# Altium footprint library DIONM5437X240N.PcbLib: 1 footprints
Each footprint in its own frame and in the unit in brackets; x right, y up, seen from the top. Pads: shape width x height; smd on the part's side, far side on the other; paste and mask are expansions set on the pad; w line width, h text height; cw(c..) or ccw(c..) is an arc to the next point about the centre after c.
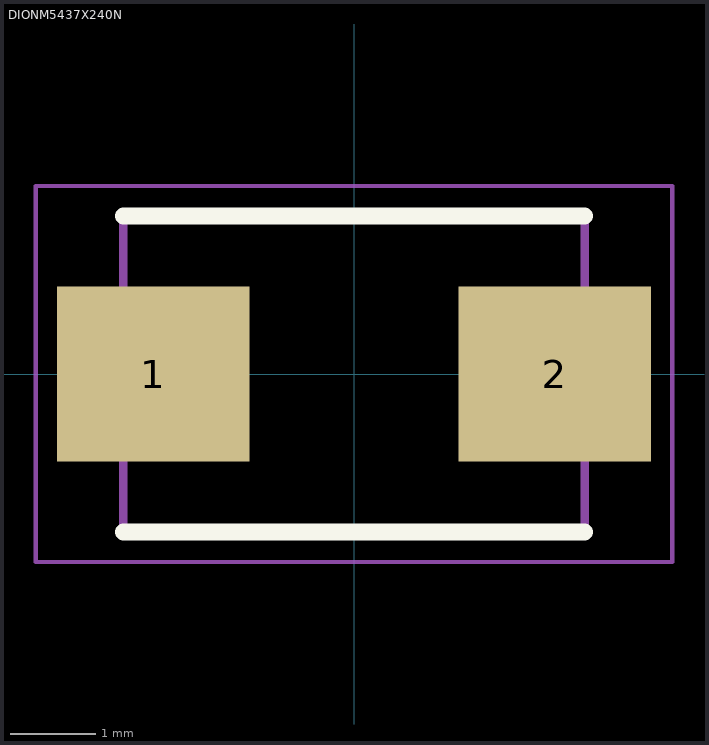
[diagram p0: the footprint, top view; thin cyan lines are the x and y axes]

## DIONM5437X240N [mm]
pads (2):
  rect 2.25x2.05 smd: 1(-2.35,0) 2(2.35,0)
Top Overlay:
  lines w0.2: -2.7,-1.85 2.7,-1.85 ; -2.7,1.85 2.7,1.85
Mechanical 15:
  lines w0.1: -2.7,-1.85 -2.7,1.85 2.7,1.85 2.7,-1.85 -2.7,-1.85
Mechanical 20:
  lines w0.05: -3.725,-2.2 -3.725,2.2 3.725,2.2 3.725,-2.2 -3.725,-2.2
3D body "P6SMBJ5.0CA.stp": height 2.4, standoff 0, extent -2.7,-1.85 2.7,1.85